# Altium footprint library customParts.PcbLib: 2 footprints
Each footprint in its own frame and in the unit in brackets; x right, y up, seen from the top. Pads: shape width x height; smd on the part's side, far side on the other; paste and mask are expansions set on the pad; w line width, h text height; cw(c..) or ccw(c..) is an arc to the next point about the centre after c.
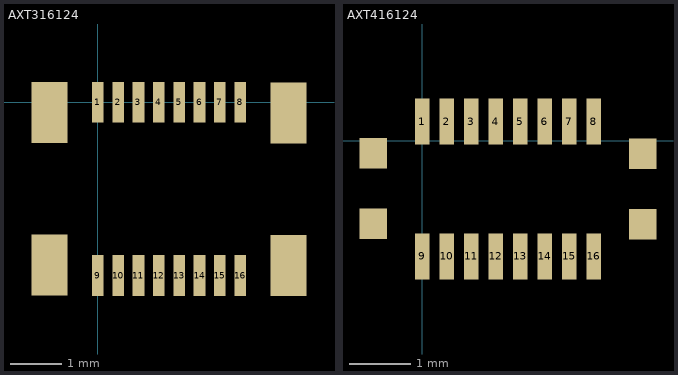
[diagram p0: the footprints below, top view; thin cyan lines are the x and y axes]

## AXT316124 [mm]
pads (20):
  rect 0.23x0.8 smd mask+0.102: 1(0,0) 2(0.4,0) 3(0.8,0) 4(1.2,0) 5(1.6,0) 6(2,0) 7(2.4,0) 8(2.8,0)
  rect 0.23x0.8 smd: 9(0,-3.41) 10(0.4,-3.41) 11(0.8,-3.41) 12(1.2,-3.41) 13(1.6,-3.41) 14(2,-3.41) 15(2.4,-3.41) 16(2.8,-3.41)
  rect 0.7x1.2 smd: ""(-0.95,-3.205) ""(-0.95,-0.205) ""(3.75,-3.215) ""(3.75,-0.215)

## AXT416124 [mm] "male header 16 pins"
pads (20):
  rect 0.23x0.75 smd mask+0.102: 1(0,0.31) 2(0.4,0.31) 3(0.8,0.31) 4(1.2,0.31) 5(1.6,0.31) 6(2,0.31) 7(2.4,0.31) 8(2.8,0.31)
  rect 0.23x0.75 smd: 9(0,-1.89) 10(0.4,-1.89) 11(0.8,-1.89) 12(1.2,-1.89) 13(1.6,-1.89) 14(2,-1.89) 15(2.4,-1.89) 16(2.8,-1.89)
  rect 0.45x0.5 smd: ""(-0.8,-1.355) ""(-0.8,-0.205) ""(3.6,-1.365) ""(3.6,-0.215)